# EAGLE library part MA06-2 (library con-lstb)
PIN HEADER
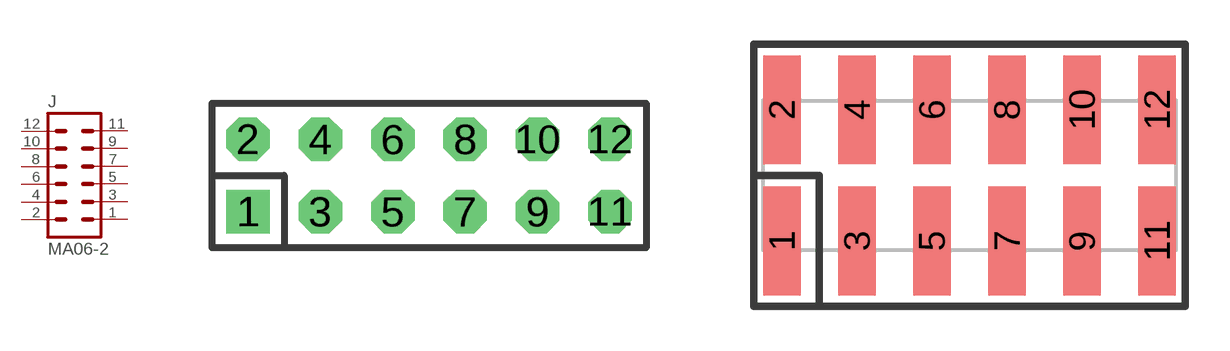
[diagram p9: symbol with the pads of MA06-2; footprints MA06-2, SMD-MA06-2]

Designator prefix J

## MA06-2  [MA06-2]
1  1  pas
2  2  pas
3  3  pas
4  4  pas
5  5  pas
6  6  pas
7  7  pas
8  8  pas
9  9  pas
10  10  pas
11  11  pas
12  12  pas

## MA06-2SMD  [SMD-MA06-2]
Pads as for MA06-2

## Footprint MA06-2 (pad centres in mm)
PIN HEADER
drill 1.016 square: 1 -6.35,-1.27
drill 1.016 octagon: 2 -6.35,1.27; 3 -3.81,-1.27; 4 -3.81,1.27; 5 -1.27,-1.27; 6 -1.27,1.27; 7 1.27,-1.27; 8 1.27,1.27; 9 3.81,-1.27; 10 3.81,1.27; 11 6.35,-1.27; 12 6.35,1.27

## Footprint SMD-MA06-2 (pad centres in mm)
SMD Dual Row, Vertical - 0.1" Sullins, G XCXXDABN-M30 Series
smd 1.27 x 3.68: 1 -6.35,-2.223; 2 -6.35,2.223; 3 -3.81,-2.223; 4 -3.81,2.223; 5 -1.27,-2.223; 6 -1.27,2.223; 7 1.27,-2.223; 8 1.27,2.223; 9 3.81,-2.223; 10 3.81,2.223; 11 6.35,-2.223; 12 6.35,2.223